# Altium schematic symbol library DIODE.SchLib: 5 symbols
Pins are listed as number, name and electrical type; pins without a type are passive.

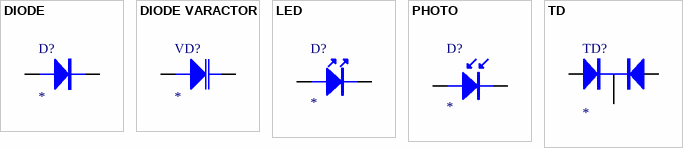
[diagram p0: symbols DIODE to TD]

## DIODE
designator D?
footprint DIODE0.4
footprint DIODE0.2
pins: 1, 2

## DIODE VARACTOR
designator VD?
Varactor Diode
footprint VDIODE
pins: 1 A, 2 K

## LED
designator D?
footprint DIODE0.1
pins: 1, 2

## PHOTO
designator D?
Photosensitive Diode
footprint DIODE0
pins: 1, 2

## TD
designator TD?
footprint TO2O2
pins: 1, 2, 3